# Altium schematic symbol library KF142R-5.08-2P.SchLib: 1 symbol
Pins are listed as number, name and electrical type; pins without a type are passive.

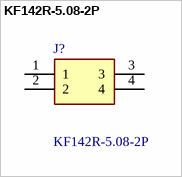
[diagram p0: symbol KF142R-5.08-2P]

## KF142R-5.08-2P
designator J?
connector 2 rows 5.08 pitch; Manufacturer_Name: CIXI KEFA ELECTRONICS; Geometry.Height: 10.5mm; Manufacturer_Part_Number: KF142R-5.08-2P; Mouser Part Number: *; Mouser Price/Stock: *; Arrow Part Number: *; Arrow Price/Stock: *; Datasheet Link: https://datasheet.lcsc.com/lcsc/2001151504_Cixi-Kefa-Elec-KF142R-5-08-2P_C475144.pdf
footprint KF142R5082P
pins: 1, 2, 3, 4